# Altium footprint library Base_Footprints.PcbLib: 43 footprints (part 2 of 3)
Each footprint in its own frame and in the unit in brackets; x right, y up, seen from the top. Pads: shape width x height; smd on the part's side, far side on the other; paste and mask are expansions set on the pad; w line width, h text height; cw(c..) or ccw(c..) is an arc to the next point about the centre after c.
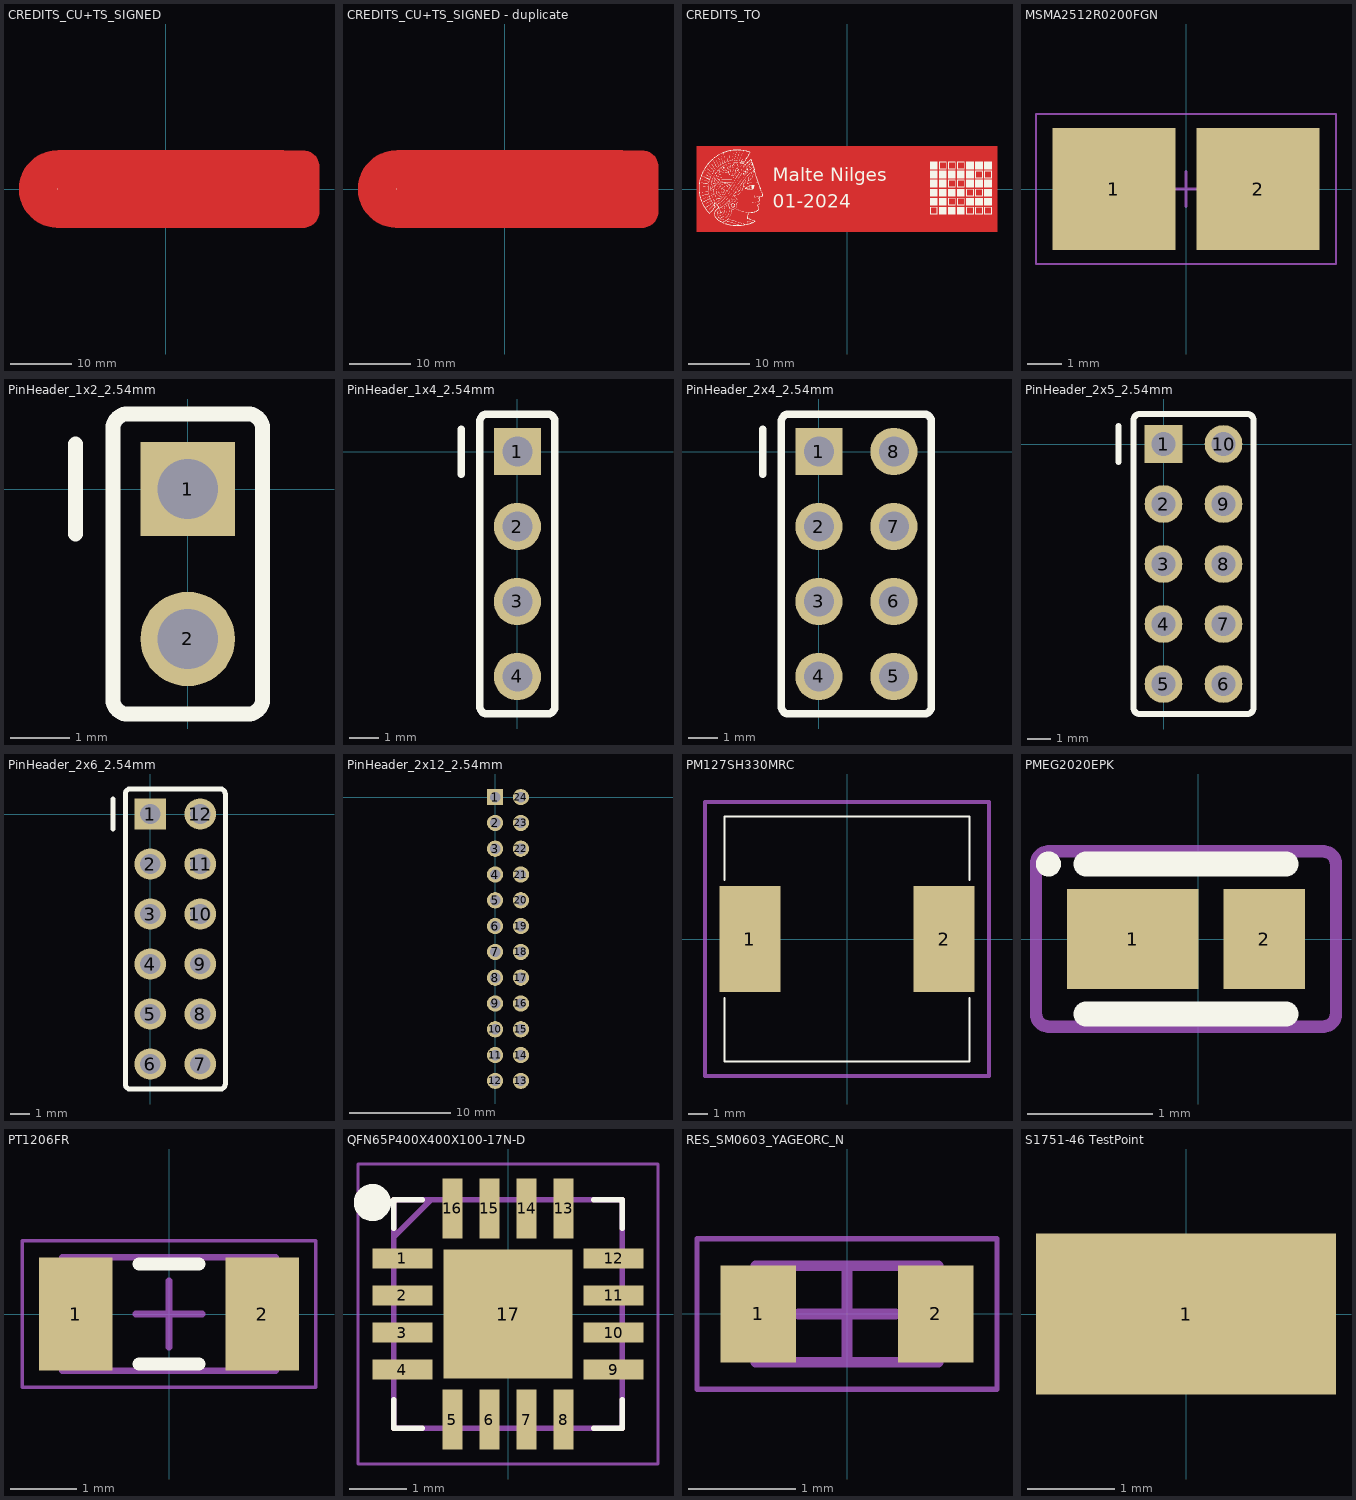
[diagram p1: the footprints below, top view; thin cyan lines are the x and y axes]

## CREDITS_CU+TS_SIGNED [mil]
pads (1):
  round 1 smd paste-99999 mask-99999: ""(-696.31,0.36)
Top Layer:
  region: 7.87,248.03 888.19,248.03 898.04,248.03 917.36,244.19 935.56,236.65 951.94,225.71 965.86,211.78 976.81,195.4 984.35,177.2 988.19,157.88 988.19,148.03 988.19,-148.03 988.19,-157.88 984.35,-177.2 976.81,-195.4 965.86,-211.78 951.94,-225.71 935.56,-236.65 917.36,-244.19 898.04,-248.03 888.19,-248.03 11.81,-248.03
  region: 761.22,250 761.22,-249.02 -693.39,-249.02 -693.39,250
  region: -783.13,125.33 -784.55,126.75 -785.11,129.01 -784.55,132.41 -781.43,133.83 -778.6,133.26 -777.19,131.84 -777.75,126.75 -779.17,125.33 -782.56,125.33
  region: 406 vertices and 73 holes, not listed, extent -939.68,-244.38 -529.77,244.8
  region: -717.45,-101.14 -712.36,-105.1 -711.51,-105.95 -709.81,-109.91 -710.38,-117.27 -712.64,-121.23 -713.49,-122.08 -714.62,-122.65 -715.76,-123.78 -718.59,-124.92 -723.4,-125.2 -726.23,-124.63 -729.34,-122.65 -733.02,-118.97 -733.87,-115.86 -734.16,-109.91 -731.33,-104.82 -729.34,-102.83 -728.5,-102.55 -728.21,-102.27 -724.25,-100.57 hole: -720.29,-105.1 -724.81,-105.67 -725.38,-105.67 -728.5,-108.21 -729.63,-111.04 -730.19,-113.31 -728.78,-116.99 -727.93,-117.84 -727.36,-118.97 -724.25,-120.39 -721.98,-120.95 -718.87,-120.1 -716.89,-118.69 -714.91,-116.71 -714.34,-114.44 -713.77,-112.74 -714.91,-109.35 -717.45,-106.23
  region: -655.74,90.23 -654.33,92.21 -650.65,92.5 -649.23,91.08 -649.8,87.12 -651.21,85.7 -654.04,86.27 -655.46,87.68 -656.02,89.95
  region: -643.85,106.65 -642.15,108.35 -639.32,107.78 -638.47,106.93 -637.91,105.8 -637.34,104.1 -637.91,102.4 -638.76,100.99 -641.02,100.42 -643.29,100.99 -645.27,102.97 -644.7,105.8 -644.14,106.37
  region: -633.1,115.14 -633.94,117.69 -633.38,120.52 -631.96,121.94 -629.7,122.5 -627.43,121.94 -626.02,120.52 -625.17,117.41 -626.02,115.43 -626.87,114.58 -629.7,113.44 -632.53,114.58 -632.81,114.86
  region: -584.97,14.93 -583.55,13.51 -584.12,11.25 -586.1,9.27 -588.93,7.57 -589.22,5.59 -588.65,3.89 -589.22,-2.9 -591.48,-6.87 -592.33,-7.72 -595.16,-8.85 -597.43,-9.42 -604.79,-9.98 -623.47,-9.42 -625.17,-8.85 -629.98,-8 -632.81,-7.43 -635.64,-6.3 -638.76,-5.45 -643,-5.17 -643.29,-3.75 -641.87,-1.77 -639.89,0.21 -638.76,0.78 -636.49,3.04 -635.36,3.61 -634.23,4.74 -622.34,10.4 -620.07,10.97 -615.83,12.38 -615.54,12.66 -608.75,13.8 -606.48,14.36 -599.12,14.93 -596.86,15.5 hole: -608.18,9.83 -609.88,9.27 -611.01,8.7 -611.86,7.85 -612.43,5.59 -611.86,-2.34 -610.45,-5.45 -608.47,-5.74 -603.37,-5.17 -602.24,-4.04 -603.65,-0.36 -603.94,0.49 -603.94,1.06 -604.22,4.17 -603.94,9.55 hole: -619.51,7 -619.79,6.72 -620.07,6.44 -623.75,5.02 -633.66,-0.36 -633.94,-1.77 -633.1,-2.62 -630.83,-3.19 -627.72,-4.04 -624.89,-4.6 -620.36,-5.17 -617.24,-5.45 -615.83,-4.6 -616.39,2.76 -616.96,5.02 -617.53,6.72
  region: 593.36,-169.63 547.58,-169.63 547.58,-123.85 593.36,-123.85 hole: 587.26,-129.95 553.68,-129.95 553.68,-163.52 587.26,-163.52 587.26,-154.37 587.26,-151.32
  region: 593.36,-47.55 593.36,-53.65 547.58,-53.65 547.58,-7.87 593.36,-7.87 593.36,-44.5
  region: 590.31,-111.64 547.58,-111.64 547.58,-65.86 593.36,-65.86 593.36,-111.64
  region: 578.1,166.09 593.36,166.09 593.36,120.31 547.58,120.31 547.58,166.09 575.05,166.09
  region: 593.36,22.65 593.36,4.33 547.58,4.33 547.58,50.11 593.36,50.11 593.36,25.7
  region: 550.63,62.32 547.58,62.32 547.58,108.1 593.36,108.1 593.36,62.32 553.68,62.32
  region: 639.14,-111.64 605.57,-111.64 605.57,-65.86 651.35,-65.86 651.35,-111.64 642.19,-111.64
  region: 651.35,120.31 605.57,120.31 605.57,166.09 651.35,166.09 hole: 645.24,159.98 611.67,159.98 611.67,144.72 611.67,141.67 611.67,126.41 645.24,126.41
  region: 605.57,-163.52 605.57,-123.85 651.35,-123.85 651.35,-169.63 605.57,-169.63 605.57,-166.58
  region: 629.98,-7.87 651.35,-7.87 651.35,-53.65 605.57,-53.65 605.57,-7.87 626.93,-7.87
  region: 651.35,98.94 651.35,62.32 605.57,62.32 605.57,108.1 651.35,108.1 651.35,102
  region: 605.57,31.8 605.57,50.11 651.35,50.11 651.35,4.33 605.57,4.33 605.57,28.75
  region: 709.33,4.33 663.55,4.33 663.55,50.11 709.33,50.11 hole: 703.23,44.01 669.66,44.01 669.66,10.44 703.23,10.44
  region: 709.33,120.31 663.55,120.31 663.55,166.09 709.33,166.09 hole: 703.23,159.98 669.66,159.98 669.66,126.41 703.23,126.41
  region: 709.33,-68.91 709.33,-111.64 663.55,-111.64 663.55,-65.86 709.33,-65.86 hole: 703.23,-71.96 669.66,-71.96 669.66,-96.38 669.66,-99.43 669.66,-105.54 703.23,-105.54
  region: 663.55,-17.03 663.55,-7.87 709.33,-7.87 709.33,-53.65 663.55,-53.65 663.55,-20.08
  region: 709.33,-142.16 709.33,-169.63 663.55,-169.63 663.55,-123.85 709.33,-123.85 709.33,-139.11
  region: 663.55,83.68 663.55,108.1 709.33,108.1 709.33,62.32 663.55,62.32 663.55,80.63
  region: 761.22,-53.65 721.54,-53.65 721.54,-7.87 767.32,-7.87 767.32,-53.65 764.27,-53.65
  region: 767.32,120.31 721.54,120.31 721.54,166.09 767.32,166.09 hole: 761.22,159.98 727.64,159.98 727.64,126.41 761.22,126.41
  region: 721.54,98.94 721.54,108.1 767.32,108.1 767.32,62.32 721.54,62.32 721.54,95.89
  region: 767.32,4.33 721.54,4.33 721.54,50.11 767.32,50.11 hole: 761.22,44.01 727.64,44.01 727.64,28.75 727.64,25.7 727.64,10.44 761.22,10.44
  region: 752.06,-123.85 767.32,-123.85 767.32,-169.63 721.54,-169.63 721.54,-123.85 749.01,-123.85
  region: 767.32,-111.64 721.54,-111.64 721.54,-84.17 721.54,-81.12 721.54,-65.86 767.32,-65.86 hole: 761.22,-71.96 727.64,-71.96 727.64,-84.17 727.64,-87.22 727.64,-105.54 761.22,-105.54
  region: 825.31,-53.65 779.53,-53.65 779.53,-20.08 779.53,-17.03 779.53,-7.87 825.31,-7.87 hole: 819.2,-13.98 785.63,-13.98 785.63,-26.19 785.63,-29.24 785.63,-47.55 819.2,-47.55
  region: 785.63,4.33 779.53,4.33 779.53,50.11 825.31,50.11 825.31,4.33 788.68,4.33
  region: 810.05,-111.64 779.53,-111.64 779.53,-65.86 825.31,-65.86 825.31,-111.64 813.1,-111.64
  region: 825.31,132.52 825.31,120.31 779.53,120.31 779.53,166.09 825.31,166.09 825.31,135.57
  region: 825.31,-169.63 779.53,-169.63 779.53,-123.85 825.31,-123.85 hole: 819.2,-129.95 785.63,-129.95 785.63,-163.52 819.2,-163.52 819.2,-139.11 819.2,-136.06
  region: 825.31,95.89 825.31,62.32 779.53,62.32 779.53,108.1 825.31,108.1 825.31,98.94
  region: 883.29,74.53 883.29,71.48 883.29,62.32 837.51,62.32 837.51,108.1 883.29,108.1 hole: 877.19,102 843.62,102 843.62,68.42 877.19,68.42
  region: 883.29,-53.65 837.51,-53.65 837.51,-7.87 883.29,-7.87 hole: 877.19,-13.98 843.62,-13.98 843.62,-26.19 843.62,-29.24 843.62,-47.55 877.19,-47.55
  region: 883.29,126.41 883.29,120.31 837.51,120.31 837.51,166.09 883.29,166.09 883.29,129.46
  region: 883.29,-169.63 837.51,-169.63 837.51,-123.85 883.29,-123.85 hole: 877.19,-129.95 843.62,-129.95 843.62,-160.47 843.62,-163.52 877.19,-163.52
  region: 837.51,-111.64 837.51,-65.86 883.29,-65.86 883.29,-111.64 840.57,-111.64
  region: 858.88,50.11 883.29,50.11 883.29,4.33 837.51,4.33 837.51,50.11 855.83,50.11
  region: 895.5,150.83 895.5,166.09 941.28,166.09 941.28,120.31 895.5,120.31 895.5,147.78
  region: 935.18,-7.87 941.28,-7.87 941.28,-53.65 895.5,-53.65 895.5,-7.87 932.12,-7.87
  region: 895.5,-84.17 895.5,-65.86 941.28,-65.86 941.28,-111.64 895.5,-111.64 895.5,-87.22
  region: 941.28,-169.63 895.5,-169.63 895.5,-123.85 941.28,-123.85 hole: 935.18,-129.95 901.61,-129.95 901.61,-163.52 935.18,-163.52
  region: 941.28,62.32 895.5,62.32 895.5,108.1 941.28,108.1 hole: 935.18,102 901.61,102 901.61,68.42 935.18,68.42 935.18,98.94
  region: 895.5,44.01 895.5,50.11 941.28,50.11 941.28,4.33 895.5,4.33 895.5,40.96
  region: -696.31,-247.67 -703.27,-247.67 -717.17,-246.89 -731,-245.33 -744.72,-243 -758.29,-239.9 -771.66,-236.05 -784.8,-231.45 -797.66,-226.12 -810.2,-220.09 -822.38,-213.35 -834.17,-205.95 -845.52,-197.89 -856.4,-189.22 -866.78,-179.94 -876.62,-170.1 -885.89,-159.72 -894.57,-148.84 -902.63,-137.49 -910.03,-125.7 -916.76,-113.52 -922.8,-100.98 -928.13,-88.12 -932.73,-74.99 -936.58,-61.61 -939.68,-48.04 -942.01,-34.32 -943.57,-20.49 -944.35,-6.6 -944.35,0.36 -944.35,7.32 -943.57,21.22 -942.01,35.05 -939.68,48.77 -936.58,62.34 -932.73,75.71 -928.13,88.85 -922.8,101.71 -916.76,114.25 -910.03,126.43 -902.63,138.22 -894.57,149.57 -885.89,160.45 -876.62,170.83 -866.78,180.67 -856.4,189.94 -845.52,198.62 -834.17,206.68 -822.38,214.08 -810.2,220.81 -797.66,226.85 -784.8,232.18 -771.66,236.77 -758.29,240.63 -744.72,243.72 -731,246.06 -717.17,247.61 -703.27,248.39 -696.31,248.39 -689.36,248.39 -675.46,247.61 -661.63,246.06 -647.91,243.72 -634.34,240.63 -620.96,236.77 -607.83,232.18 -594.97,226.85 -582.43,220.81 -570.25,214.08 -558.46,206.68 -547.11,198.62 -536.23,189.94 -525.85,180.67 -516.01,170.83 -506.73,160.45 -498.06,149.57 -490,138.22 -482.6,126.43 -475.86,114.25 -469.83,101.71 -464.5,88.85 -459.9,75.71 -456.05,62.34 -452.95,48.77 -450.62,35.05 -449.06,21.22 -448.28,7.32 -448.28,0.36 -448.28,-6.6 -449.06,-20.49 -450.62,-34.32 -452.95,-48.04 -456.05,-61.61 -459.9,-74.99 -464.5,-88.12 -469.83,-100.98 -475.86,-113.52 -482.6,-125.7 -490,-137.49 -498.06,-148.84 -506.73,-159.72 -516.01,-170.1 -525.85,-179.94 -536.23,-189.22 -547.11,-197.89 -558.46,-205.95 -570.25,-213.35 -582.43,-220.09 -594.97,-226.12 -607.83,-231.45 -620.96,-236.05 -634.34,-239.9 -647.91,-243 -661.63,-245.33 -675.46,-246.89 -689.36,-247.67
  text "01-2024" at -442.82,-129.91 h86.61
  text "Malte Nilges" at -464.41,42 h86.61
Top Solder:
  drawing of 54 lines, arcs and shapes, not listed
  text "01 / 2024" at 155.6,-185.41 h51.18

## CREDITS_CU+TS_SIGNED - duplicate [mil]
pads (1):
  round 1 smd paste-99999 mask-99999: ""(-696.31,0.36)
Top Layer:
  region: 7.87,248.03 888.19,248.03 898.04,248.03 917.36,244.19 935.56,236.65 951.94,225.71 965.86,211.78 976.81,195.4 984.35,177.2 988.19,157.88 988.19,148.03 988.19,-148.03 988.19,-157.88 984.35,-177.2 976.81,-195.4 965.86,-211.78 951.94,-225.71 935.56,-236.65 917.36,-244.19 898.04,-248.03 888.19,-248.03 11.81,-248.03
  region: 761.22,250 761.22,-249.02 -693.39,-249.02 -693.39,250
  region: -783.13,125.33 -784.55,126.75 -785.11,129.01 -784.55,132.41 -781.43,133.83 -778.6,133.26 -777.19,131.84 -777.75,126.75 -779.17,125.33 -782.56,125.33
  region: 406 vertices and 73 holes, not listed, extent -939.68,-244.38 -529.77,244.8
  region: -717.45,-101.14 -712.36,-105.1 -711.51,-105.95 -709.81,-109.91 -710.38,-117.27 -712.64,-121.23 -713.49,-122.08 -714.62,-122.65 -715.76,-123.78 -718.59,-124.92 -723.4,-125.2 -726.23,-124.63 -729.34,-122.65 -733.02,-118.97 -733.87,-115.86 -734.16,-109.91 -731.33,-104.82 -729.34,-102.83 -728.5,-102.55 -728.21,-102.27 -724.25,-100.57 hole: -720.29,-105.1 -724.81,-105.67 -725.38,-105.67 -728.5,-108.21 -729.63,-111.04 -730.19,-113.31 -728.78,-116.99 -727.93,-117.84 -727.36,-118.97 -724.25,-120.39 -721.98,-120.95 -718.87,-120.1 -716.89,-118.69 -714.91,-116.71 -714.34,-114.44 -713.77,-112.74 -714.91,-109.35 -717.45,-106.23
  region: -655.74,90.23 -654.33,92.21 -650.65,92.5 -649.23,91.08 -649.8,87.12 -651.21,85.7 -654.04,86.27 -655.46,87.68 -656.02,89.95
  region: -643.85,106.65 -642.15,108.35 -639.32,107.78 -638.47,106.93 -637.91,105.8 -637.34,104.1 -637.91,102.4 -638.76,100.99 -641.02,100.42 -643.29,100.99 -645.27,102.97 -644.7,105.8 -644.14,106.37
  region: -633.1,115.14 -633.94,117.69 -633.38,120.52 -631.96,121.94 -629.7,122.5 -627.43,121.94 -626.02,120.52 -625.17,117.41 -626.02,115.43 -626.87,114.58 -629.7,113.44 -632.53,114.58 -632.81,114.86
  region: -584.97,14.93 -583.55,13.51 -584.12,11.25 -586.1,9.27 -588.93,7.57 -589.22,5.59 -588.65,3.89 -589.22,-2.9 -591.48,-6.87 -592.33,-7.72 -595.16,-8.85 -597.43,-9.42 -604.79,-9.98 -623.47,-9.42 -625.17,-8.85 -629.98,-8 -632.81,-7.43 -635.64,-6.3 -638.76,-5.45 -643,-5.17 -643.29,-3.75 -641.87,-1.77 -639.89,0.21 -638.76,0.78 -636.49,3.04 -635.36,3.61 -634.23,4.74 -622.34,10.4 -620.07,10.97 -615.83,12.38 -615.54,12.66 -608.75,13.8 -606.48,14.36 -599.12,14.93 -596.86,15.5 hole: -608.18,9.83 -609.88,9.27 -611.01,8.7 -611.86,7.85 -612.43,5.59 -611.86,-2.34 -610.45,-5.45 -608.47,-5.74 -603.37,-5.17 -602.24,-4.04 -603.65,-0.36 -603.94,0.49 -603.94,1.06 -604.22,4.17 -603.94,9.55 hole: -619.51,7 -619.79,6.72 -620.07,6.44 -623.75,5.02 -633.66,-0.36 -633.94,-1.77 -633.1,-2.62 -630.83,-3.19 -627.72,-4.04 -624.89,-4.6 -620.36,-5.17 -617.24,-5.45 -615.83,-4.6 -616.39,2.76 -616.96,5.02 -617.53,6.72
  region: 593.36,-169.63 547.58,-169.63 547.58,-123.85 593.36,-123.85 hole: 587.26,-129.95 553.68,-129.95 553.68,-163.52 587.26,-163.52 587.26,-154.37 587.26,-151.32
  region: 593.36,-47.55 593.36,-53.65 547.58,-53.65 547.58,-7.87 593.36,-7.87 593.36,-44.5
  region: 590.31,-111.64 547.58,-111.64 547.58,-65.86 593.36,-65.86 593.36,-111.64
  region: 578.1,166.09 593.36,166.09 593.36,120.31 547.58,120.31 547.58,166.09 575.05,166.09
  region: 593.36,22.65 593.36,4.33 547.58,4.33 547.58,50.11 593.36,50.11 593.36,25.7
  region: 550.63,62.32 547.58,62.32 547.58,108.1 593.36,108.1 593.36,62.32 553.68,62.32
  region: 639.14,-111.64 605.57,-111.64 605.57,-65.86 651.35,-65.86 651.35,-111.64 642.19,-111.64
  region: 651.35,120.31 605.57,120.31 605.57,166.09 651.35,166.09 hole: 645.24,159.98 611.67,159.98 611.67,144.72 611.67,141.67 611.67,126.41 645.24,126.41
  region: 605.57,-163.52 605.57,-123.85 651.35,-123.85 651.35,-169.63 605.57,-169.63 605.57,-166.58
  region: 629.98,-7.87 651.35,-7.87 651.35,-53.65 605.57,-53.65 605.57,-7.87 626.93,-7.87
  region: 651.35,98.94 651.35,62.32 605.57,62.32 605.57,108.1 651.35,108.1 651.35,102
  region: 605.57,31.8 605.57,50.11 651.35,50.11 651.35,4.33 605.57,4.33 605.57,28.75
  region: 709.33,4.33 663.55,4.33 663.55,50.11 709.33,50.11 hole: 703.23,44.01 669.66,44.01 669.66,10.44 703.23,10.44
  region: 709.33,120.31 663.55,120.31 663.55,166.09 709.33,166.09 hole: 703.23,159.98 669.66,159.98 669.66,126.41 703.23,126.41
  region: 709.33,-68.91 709.33,-111.64 663.55,-111.64 663.55,-65.86 709.33,-65.86 hole: 703.23,-71.96 669.66,-71.96 669.66,-96.38 669.66,-99.43 669.66,-105.54 703.23,-105.54
  region: 663.55,-17.03 663.55,-7.87 709.33,-7.87 709.33,-53.65 663.55,-53.65 663.55,-20.08
  region: 709.33,-142.16 709.33,-169.63 663.55,-169.63 663.55,-123.85 709.33,-123.85 709.33,-139.11
  region: 663.55,83.68 663.55,108.1 709.33,108.1 709.33,62.32 663.55,62.32 663.55,80.63
  region: 761.22,-53.65 721.54,-53.65 721.54,-7.87 767.32,-7.87 767.32,-53.65 764.27,-53.65
  region: 767.32,120.31 721.54,120.31 721.54,166.09 767.32,166.09 hole: 761.22,159.98 727.64,159.98 727.64,126.41 761.22,126.41
  region: 721.54,98.94 721.54,108.1 767.32,108.1 767.32,62.32 721.54,62.32 721.54,95.89
  region: 767.32,4.33 721.54,4.33 721.54,50.11 767.32,50.11 hole: 761.22,44.01 727.64,44.01 727.64,28.75 727.64,25.7 727.64,10.44 761.22,10.44
  region: 752.06,-123.85 767.32,-123.85 767.32,-169.63 721.54,-169.63 721.54,-123.85 749.01,-123.85
  region: 767.32,-111.64 721.54,-111.64 721.54,-84.17 721.54,-81.12 721.54,-65.86 767.32,-65.86 hole: 761.22,-71.96 727.64,-71.96 727.64,-84.17 727.64,-87.22 727.64,-105.54 761.22,-105.54
  region: 825.31,-53.65 779.53,-53.65 779.53,-20.08 779.53,-17.03 779.53,-7.87 825.31,-7.87 hole: 819.2,-13.98 785.63,-13.98 785.63,-26.19 785.63,-29.24 785.63,-47.55 819.2,-47.55
  region: 785.63,4.33 779.53,4.33 779.53,50.11 825.31,50.11 825.31,4.33 788.68,4.33
  region: 810.05,-111.64 779.53,-111.64 779.53,-65.86 825.31,-65.86 825.31,-111.64 813.1,-111.64
  region: 825.31,132.52 825.31,120.31 779.53,120.31 779.53,166.09 825.31,166.09 825.31,135.57
  region: 825.31,-169.63 779.53,-169.63 779.53,-123.85 825.31,-123.85 hole: 819.2,-129.95 785.63,-129.95 785.63,-163.52 819.2,-163.52 819.2,-139.11 819.2,-136.06
  region: 825.31,95.89 825.31,62.32 779.53,62.32 779.53,108.1 825.31,108.1 825.31,98.94
  region: 883.29,74.53 883.29,71.48 883.29,62.32 837.51,62.32 837.51,108.1 883.29,108.1 hole: 877.19,102 843.62,102 843.62,68.42 877.19,68.42
  region: 883.29,-53.65 837.51,-53.65 837.51,-7.87 883.29,-7.87 hole: 877.19,-13.98 843.62,-13.98 843.62,-26.19 843.62,-29.24 843.62,-47.55 877.19,-47.55
  region: 883.29,126.41 883.29,120.31 837.51,120.31 837.51,166.09 883.29,166.09 883.29,129.46
  region: 883.29,-169.63 837.51,-169.63 837.51,-123.85 883.29,-123.85 hole: 877.19,-129.95 843.62,-129.95 843.62,-160.47 843.62,-163.52 877.19,-163.52
  region: 837.51,-111.64 837.51,-65.86 883.29,-65.86 883.29,-111.64 840.57,-111.64
  region: 858.88,50.11 883.29,50.11 883.29,4.33 837.51,4.33 837.51,50.11 855.83,50.11
  region: 895.5,150.83 895.5,166.09 941.28,166.09 941.28,120.31 895.5,120.31 895.5,147.78
  region: 935.18,-7.87 941.28,-7.87 941.28,-53.65 895.5,-53.65 895.5,-7.87 932.12,-7.87
  region: 895.5,-84.17 895.5,-65.86 941.28,-65.86 941.28,-111.64 895.5,-111.64 895.5,-87.22
  region: 941.28,-169.63 895.5,-169.63 895.5,-123.85 941.28,-123.85 hole: 935.18,-129.95 901.61,-129.95 901.61,-163.52 935.18,-163.52
  region: 941.28,62.32 895.5,62.32 895.5,108.1 941.28,108.1 hole: 935.18,102 901.61,102 901.61,68.42 935.18,68.42 935.18,98.94
  region: 895.5,44.01 895.5,50.11 941.28,50.11 941.28,4.33 895.5,4.33 895.5,40.96
  region: -696.31,-247.67 -703.27,-247.67 -717.17,-246.89 -731,-245.33 -744.72,-243 -758.29,-239.9 -771.66,-236.05 -784.8,-231.45 -797.66,-226.12 -810.2,-220.09 -822.38,-213.35 -834.17,-205.95 -845.52,-197.89 -856.4,-189.22 -866.78,-179.94 -876.62,-170.1 -885.89,-159.72 -894.57,-148.84 -902.63,-137.49 -910.03,-125.7 -916.76,-113.52 -922.8,-100.98 -928.13,-88.12 -932.73,-74.99 -936.58,-61.61 -939.68,-48.04 -942.01,-34.32 -943.57,-20.49 -944.35,-6.6 -944.35,0.36 -944.35,7.32 -943.57,21.22 -942.01,35.05 -939.68,48.77 -936.58,62.34 -932.73,75.71 -928.13,88.85 -922.8,101.71 -916.76,114.25 -910.03,126.43 -902.63,138.22 -894.57,149.57 -885.89,160.45 -876.62,170.83 -866.78,180.67 -856.4,189.94 -845.52,198.62 -834.17,206.68 -822.38,214.08 -810.2,220.81 -797.66,226.85 -784.8,232.18 -771.66,236.77 -758.29,240.63 -744.72,243.72 -731,246.06 -717.17,247.61 -703.27,248.39 -696.31,248.39 -689.36,248.39 -675.46,247.61 -661.63,246.06 -647.91,243.72 -634.34,240.63 -620.96,236.77 -607.83,232.18 -594.97,226.85 -582.43,220.81 -570.25,214.08 -558.46,206.68 -547.11,198.62 -536.23,189.94 -525.85,180.67 -516.01,170.83 -506.73,160.45 -498.06,149.57 -490,138.22 -482.6,126.43 -475.86,114.25 -469.83,101.71 -464.5,88.85 -459.9,75.71 -456.05,62.34 -452.95,48.77 -450.62,35.05 -449.06,21.22 -448.28,7.32 -448.28,0.36 -448.28,-6.6 -449.06,-20.49 -450.62,-34.32 -452.95,-48.04 -456.05,-61.61 -459.9,-74.99 -464.5,-88.12 -469.83,-100.98 -475.86,-113.52 -482.6,-125.7 -490,-137.49 -498.06,-148.84 -506.73,-159.72 -516.01,-170.1 -525.85,-179.94 -536.23,-189.22 -547.11,-197.89 -558.46,-205.95 -570.25,-213.35 -582.43,-220.09 -594.97,-226.12 -607.83,-231.45 -620.96,-236.05 -634.34,-239.9 -647.91,-243 -661.63,-245.33 -675.46,-246.89 -689.36,-247.67
  text "01-2024" at -466.44,-129.91 h86.61
  text "Malte Nilges" at -464.41,42 h86.61
Top Solder:
  drawing of 128 lines, arcs and shapes, not listed
  text "2024" at 202.79,-159.44 h59.06

## CREDITS_TO [mm]
Top Layer:
  pour cut-out: 24.5,7 24.5,-7 -24.5,-7 -24.5,7
Top Overlay:
  drawing of 49 lines, arcs and shapes, not listed
  text "01-2024" at -12.148,-3.1 h2.2
  text "Malte Nilges" at -12.096,1.267 h2.2

## MSMA2512R0200FGN [mm]
height 0.62
pads (2):
  rect 3.55x3.5 smd: 1(-2.075,0) 2(2.075,0)
Mechanical 15:
  lines w0.05: -4.318,-2.159 -4.318,2.159 4.318,2.159 4.318,-2.159 -4.318,-2.159
  lines w0.1: -0.5,0 0.5,0 ; 0,-0.5 0,0.5
3D body: height 0.62, standoff 0, extent -0.7,-1.7 0.7,1.7
3D body: height 0.62, standoff 0, extent -3.3,-1.7 -0.7,1.7
3D body: height 0.62, standoff 0, extent 0.7,-1.7 3.3,1.7

## PinHeader_1x2_2.54mm [mm]
pads (2):
  rect 1.6x1.6 hole 1.02: 1(0,0)
  round 1.6 hole 1.02: 2(0,-2.54)
Top Overlay:
  lines w0.254: -1.905,-0.762 -1.905,0.762 ; -1.27,-3.556 ccw(c-1.016,-3.556) -1.016,-3.81 1.016,-3.81 ccw(c1.016,-3.556) 1.27,-3.556 1.27,1.016 ccw(c1.016,1.016) 1.016,1.27 -1.016,1.27 ccw(c-1.016,1.016) -1.27,1.016 -1.27,-3.556

## PinHeader_1x4_2.54mm [mm]
pads (4):
  rect 1.6x1.6 hole 1.02: 1(0,0)
  round 1.6 hole 1.02: 2(0,-2.54) 3(0,-5.08) 4(0,-7.62)
Top Overlay:
  lines w0.254: -1.905,-0.762 -1.905,0.762 ; -1.27,-8.636 ccw(c-1.016,-8.636) -1.016,-8.89 1.016,-8.89 ccw(c1.016,-8.636) 1.27,-8.636 1.27,1.016 ccw(c1.016,1.016) 1.016,1.27 -1.016,1.27 ccw(c-1.016,1.016) -1.27,1.016 -1.27,-8.636

## PinHeader_2x4_2.54mm [mm]
pads (8):
  rect 1.6x1.6 hole 1.02: 1(0,0)
  round 1.6 hole 1.02: 2(0,-2.54) 3(0,-5.08) 4(0,-7.62) 5(2.54,-7.62) 6(2.54,-5.08) 7(2.54,-2.54) 8(2.54,0)
Top Overlay:
  lines w0.254: -1.905,-0.762 -1.905,0.762 ; -1.27,-8.636 ccw(c-1.016,-8.636) -1.016,-8.89 3.556,-8.89 ccw(c3.556,-8.636) 3.81,-8.636 3.81,1.016 ccw(c3.556,1.016) 3.556,1.27 -1.016,1.27 ccw(c-1.016,1.016) -1.27,1.016 -1.27,-8.636

## PinHeader_2x5_2.54mm [mm]
pads (10):
  rect 1.6x1.6 hole 1.02: 1(0,0)
  round 1.6 hole 1.02: 2(0,-2.54) 3(0,-5.08) 4(0,-7.62) 5(0,-10.16) 6(2.54,-10.16) 7(2.54,-7.62) 8(2.54,-5.08) 9(2.54,-2.54) 10(2.54,0)
Top Overlay:
  lines w0.254: -1.905,-0.762 -1.905,0.762 ; -1.27,-11.176 ccw(c-1.016,-11.176) -1.016,-11.43 3.556,-11.43 ccw(c3.556,-11.176) 3.81,-11.176 3.81,1.016 ccw(c3.556,1.016) 3.556,1.27 -1.016,1.27 ccw(c-1.016,1.016) -1.27,1.016 -1.27,-11.176

## PinHeader_2x6_2.54mm [mm]
pads (12):
  rect 1.6x1.6 hole 1.02: 1(0,0)
  round 1.6 hole 1.02: 2(0,-2.54) 3(0,-5.08) 4(0,-7.62) 5(0,-10.16) 6(0,-12.7) 7(2.54,-12.7) 8(2.54,-10.16) 9(2.54,-7.62) 10(2.54,-5.08) 11(2.54,-2.54) 12(2.54,0)
Top Overlay:
  lines w0.254: -1.905,-0.762 -1.905,0.762 ; -1.27,-13.716 ccw(c-1.016,-13.716) -1.016,-13.97 3.556,-13.97 ccw(c3.556,-13.716) 3.81,-13.716 3.81,1.016 ccw(c3.556,1.016) 3.556,1.27 -1.016,1.27 ccw(c-1.016,1.016) -1.27,1.016 -1.27,-13.716

## PinHeader_2x12_2.54mm [mm]
pads (24):
  rect 1.6x1.6 hole 1.02: 1(0,0)
  round 1.6 hole 1.02: 2(0,-2.54) 3(0,-5.08) 4(0,-7.62) 5(0,-10.16) 6(0,-12.7) 7(0,-15.24) 8(0,-17.78) 9(0,-20.32) 10(0,-22.86) 11(0,-25.4) 12(0,-27.94) 13(2.54,-27.94) 14(2.54,-25.4) 15(2.54,-22.86) 16(2.54,-20.32) 17(2.54,-17.78) 18(2.54,-15.24) 19(2.54,-12.7) 20(2.54,-10.16) 21(2.54,-7.62) 22(2.54,-5.08) 23(2.54,-2.54) 24(2.54,0)

## PM127SH330MRC [mm]
pads (2):
  rect 3.1x5.4 smd: 1(-4.95,0) 2(4.95,0)
Top Overlay:
  lines w0.1: -6.25,-3 -6.25,-6.25 6.25,-6.25 6.25,-3 ; -6.25,3 -6.25,6.25 6.25,6.25 6.25,3
Mechanical 15:
  lines w0.2: -7.239,-6.985 -7.239,6.985 7.239,6.985 7.239,-6.985 -7.239,-6.985
3D body "PM127SH-330M-RC.stp": height 8.1, standoff 0, extent -6.25,-6.25 6.25,6.25

## PMEG2020EPK [mm] "SS34FA Molded Diode, 2-Leads, Body 2,80x1,80mm, IPC Medium Density"
height 1.43
pads (2):
  rect 1.05x0.8 smd: 1(-0.525,0)
  rect 0.65x0.8 smd: 2(0.525,0)
Top Overlay:
  circle w0.1: c-1.2,0.6 r0.05
  lines w0.2: -0.9,-0.6 0.7,-0.6 ; -0.9,0.6 0.7,0.6
Top Courtyard:
  lines w0.1: -1.3,-0.6 ccw(c-1.2,-0.6) -1.2,-0.7 1,-0.7 ccw(c1,-0.6) 1.1,-0.6 1.1,0.6 ccw(c1,0.6) 1,0.7 -1.2,0.7 ccw(c-1.2,0.6) -1.3,0.6 -1.3,-0.6
3D body: height 0.4, standoff 0, extent -0.9,-0.4 0.7,0.4

## PT1206FR [mm]
height 0.65
pads (2):
  rect 1.1x1.7 smd: 1(-1.4,0) 2(1.4,0)
Top Overlay:
  lines w0.2: -0.45,-0.75 0.45,-0.75 ; -0.45,0.75 0.45,0.75
Top Courtyard:
  lines w0.05: -2.2,-1.1 2.2,-1.1 2.2,1.1 -2.2,1.1 -2.2,-1.1
  lines w0.1: -0.5,0 0.5,0 ; 0,-0.5 0,0.5
Top Assembly:
  lines w0.1: -1.6,-0.85 1.6,-0.85 1.6,0.85 -1.6,0.85 -1.6,-0.85
3D body: height 0.65, standoff 0, extent 1.15,-0.85 1.6,0.85
3D body: height 0.65, standoff 0, extent -1.6,-0.85 -1.15,0.85
3D body: height 0.65, standoff 0, extent -1.15,-0.85 1.15,0.85

## QFN65P400X400X100-17N-D [mm]
pads (17):
  rect 1.05x0.35 smd: 1(-1.85,0.975) 2(-1.85,0.325) 3(-1.85,-0.325) 4(-1.85,-0.975) 9(1.85,-0.975) 10(1.85,-0.325) 11(1.85,0.325) 12(1.85,0.975)
  rect 0.35x1.05 smd: 5(-0.975,-1.85) 6(-0.325,-1.85) 7(0.325,-1.85) 8(0.975,-1.85) 13(0.975,1.85) 14(0.325,1.85) 15(-0.325,1.85) 16(-0.975,1.85)
  rect 2.26x2.26 smd: 17(0,0)
Top Overlay:
  circle w0.325: c-2.375,1.95 r0.162
  lines w0.1: -2,-1.5 -2,-2 -1.5,-2 ; -2,1.5 -2,2 -1.5,2 ; 1.5,-2 2,-2 2,-1.5 ; 1.5,2 2,2 2,1.5
Mechanical 15:
  lines w0.1: -2,1.35 -1.35,2 ; -2,-2 -2,2 2,2 2,-2 -2,-2
Mechanical 20:
  lines w0.05: -2.625,-2.625 -2.625,2.625 2.625,2.625 2.625,-2.625 -2.625,-2.625
3D body "PCA9546ARGVR.stp": height 1, standoff 0, extent -1.988,-2.062 2.012,1.938

## RES_SM0603_YAGEORC_N [mm] "Resistor, Yageo RC_L, SM0603, IPC Medium Density"
height 0.55
pads (2):
  rect 0.7x0.9 smd: 1(-0.827,0) 2(0.827,0)
Mechanical 13:
  lines w0.1: -0.85,-0.45 0.85,-0.45 0.85,0.45 -0.85,0.45 -0.85,-0.45
Mechanical 15:
  lines w0.05: -1.397,-0.7 1.397,-0.7 1.397,0.7 -1.397,0.7 -1.397,-0.7
  lines w0.1: -0.45,0 0.45,0 ; 0,-0.45 0,0.45
3D body: height 0.55, standoff 0, extent 0.6,-0.45 0.85,0.45
3D body: height 0.55, standoff 0, extent -0.85,-0.45 -0.6,0.45
3D body: height 0.55, standoff 0, extent -0.6,-0.45 0.6,0.45

## S1751-46 TestPoint [mm]
pads (1):
  rect 3.45x1.85 smd: 1(0,0)